# Altium footprint library 7.6mm_Buzzer_THT.PcbLib: 1 footprints
Each footprint in its own frame and in the unit in brackets; x right, y up, seen from the top. Pads: shape width x height; smd on the part's side, far side on the other; paste and mask are expansions set on the pad; w line width, h text height; cw(c..) or ccw(c..) is an arc to the next point about the centre after c.
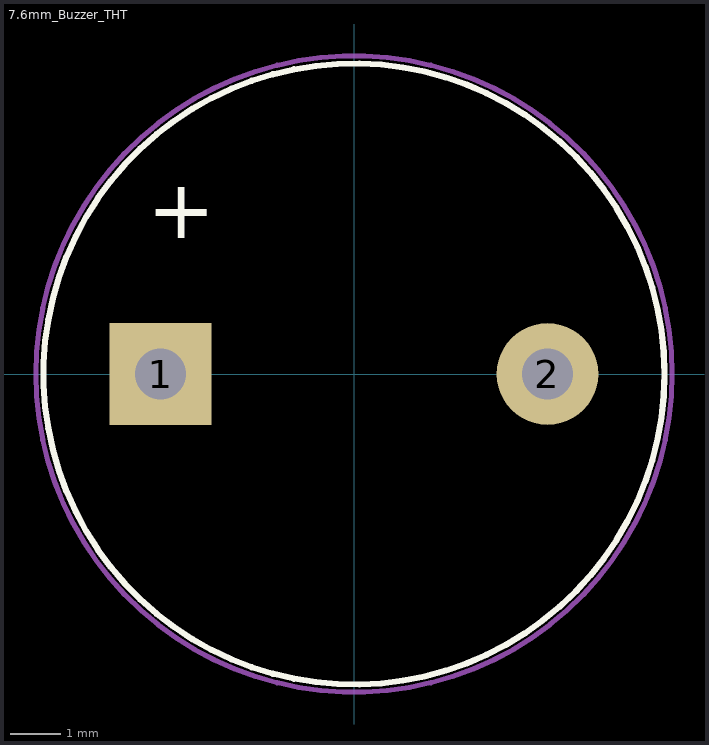
[diagram p0: the footprint, top view; thin cyan lines are the x and y axes]

## 7.6mm_Buzzer_THT [mm] "7.6mm_Buzzer_THT"
pads (2):
  rect 2x2 hole 1 paste-2 mask+0: 1(-3.8,0)
  round 2 hole 1 paste-2 mask+0: 2(3.8,0)
Top Overlay:
  circle w0.12: c0,0 r6.1
  text "+" at -4.064,2.286 h2
Mechanical 1:
  circle w0.1: c0,0 r6.25
  text ".Designator" at 0,0.376 h2
  text "+" at -4.064,2.286 h2
Mechanical 15:
  text "+" at -0.333,-0.5 h1
3D body "Buzzer_5V.STEP": height 9.65, standoff -4.5, extent -9.454,-6 5.989,6